# Altium schematic symbol library kmilo17pet-NSC_Interface.SchLib: 1433 symbols (part 26 of 51)
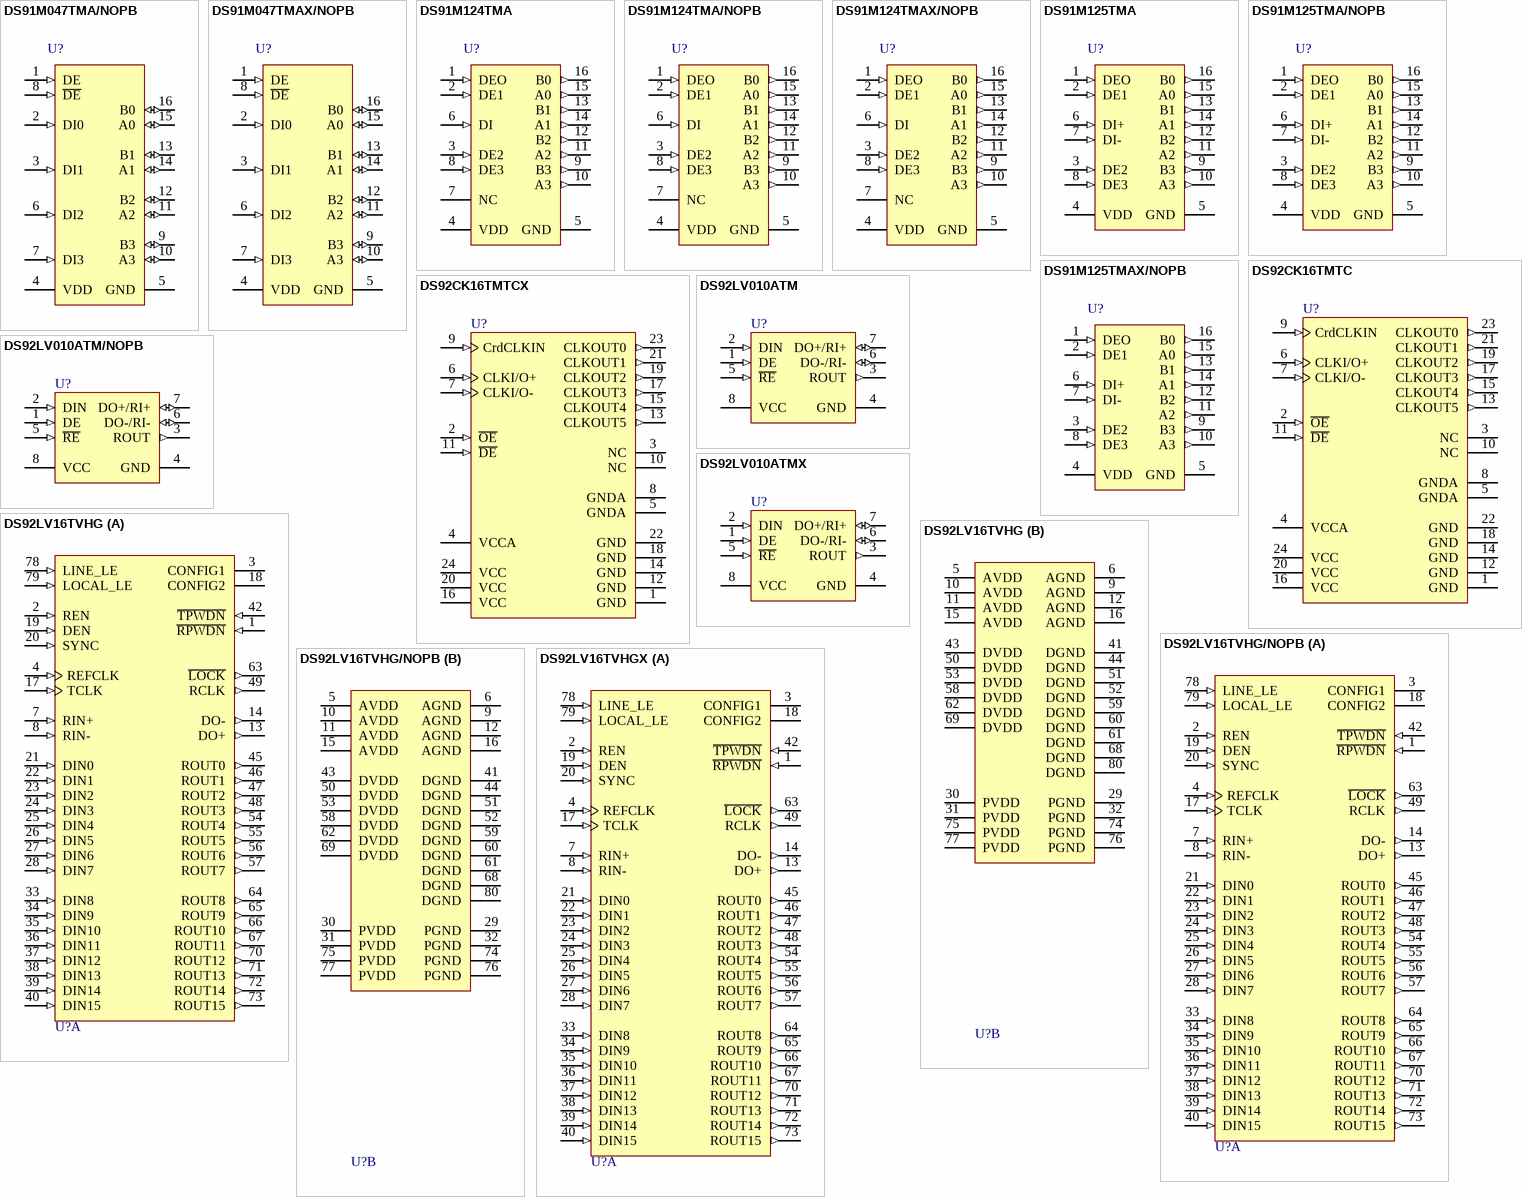
[diagram p149: symbols DS91M047TMA/NOPB to DS92LV16TVHGX]

## DS92LV16TVHG
designator U?
16-Bit Bus LVDS Serializer/Deserializer - 25 - 80 MHz, 80-pin LQFP; PartNumber: DS92LV16TVHG; Manufacturer: National Semiconductor; PackageTopMarking: NSUZXYTTE#*DS92LV16TVHG*BBBBB; PowerWise: N; CompType: Interface IC; High-Reliability: Y; DatasheetVersion: Feb-2002; PackageVersion: revE, Feb-2005; PackageReference: VHG80A; PackageDescription: LQFP, Jedec, Metric, 12 x 12 x 1.4mm, 80 Lead, 0.5mm Pitch; RoHS: N; PinCount: 80; Code_JEDEC: MS-026-BDD; ComponentLink1Description: Manufacturer URL; ComponentLink1URL: http://www.national.com/; ComponentLink2Description: DS92LV16 Datasheet; ComponentLink2URL: http://www.national.com/ds/DS/DS92LV16.pdf; ComponentLink3Description: DS92LV16 Web Page; ComponentLink3URL: http://www.national.com/pf/DS/DS92LV16.html; ComponentLink4Description: VHG80A Package Page; ComponentLink4URL: http://www.national.com/packaging/folders/vhg80a.html
footprint VHG80A_N (Thin QFP, 80-Leads, Body 12x12mm, Pitch 0.5mm, IPC Medium Density)
footprint VHG80A_L (Thin QFP, 80-Leads, Body 12x12mm, Pitch 0.5mm, IPC High Density)
footprint VHG80A_M (Thin QFP, 80-Leads, Body 12x12mm, Pitch 0.5mm, IPC Low Density)
part A pins: 1 ~{RPWDN} (in), 2 REN (in), 3 CONFIG1, 4 REFCLK (in), 7 RIN+ (in), 8 RIN- (in), 13 DO+ (out), 14 DO- (out), 17 TCLK (in), 18 CONFIG2, 19 DEN (in), 20 SYNC (in), 21 DIN0 (in), 22 DIN1 (in), 23 DIN2 (in), 24 DIN3 (in), 25 DIN4 (in), 26 DIN5 (in), 27 DIN6 (in), 28 DIN7 (in), 33 DIN8 (in), 34 DIN9 (in), 35 DIN10 (in), 36 DIN11 (in), 37 DIN12 (in), 38 DIN13 (in), 39 DIN14 (in), 40 DIN15 (in), 42 ~{TPWDN} (in), 45 ROUT0 (out), 46 ROUT1 (out), 47 ROUT2 (out), 48 ROUT3 (out), 49 RCLK (out), 54 ROUT4 (out), 55 ROUT5 (out), 56 ROUT6 (out), 57 ROUT7 (out), 63 ~{LOCK} (out), 64 ROUT8 (out), 65 ROUT9 (out), 66 ROUT10 (out), 67 ROUT11 (out), 70 ROUT12 (out), 71 ROUT13 (out), 72 ROUT14 (out), 73 ROUT15 (out), 78 LINE_LE (in), 79 LOCAL_LE (in)
part B pins: 5 AVDD (power), 6 AGND (power), 9 AGND (power), 10 AVDD (power), 11 AVDD (power), 12 AGND (power), 15 AVDD (power), 16 AGND (power), 29 PGND (power), 30 PVDD (power), 31 PVDD (power), 32 PGND (power), 41 DGND (power), 43 DVDD (power), 44 DGND (power), 50 DVDD (power), 51 DGND (power), 52 DGND (power), 53 DVDD (power), 58 DVDD (power), 59 DGND (power), 60 DGND (power), 61 DGND (power), 62 DVDD (power), 68 DGND (power), 69 DVDD (power), 74 PGND (power), 75 PVDD (power), 76 PGND (power), 77 PVDD (power), 80 DGND (power)

## DS92LV16TVHG/NOPB
designator U?
16-Bit Bus LVDS Serializer/Deserializer - 25 - 80 MHz, 80-pin LQFP, Pb-Free; PartNumber: DS92LV16TVHG/NOPB; Manufacturer: National Semiconductor; PackageTopMarking: NSUZXYTTE#*DS92LV16TVHG*BBBBB; PowerWise: N; CompType: Interface IC; High-Reliability: Y; DatasheetVersion: Feb-2002; PackageVersion: revE, Feb-2005; PackageReference: VHG80A; PackageDescription: LQFP, Jedec, Metric, 12 x 12 x 1.4mm, 80 Lead, 0.5mm Pitch; RoHS: Y; PinCount: 80; Code_JEDEC: MS-026-BDD; ComponentLink1Description: Manufacturer URL; ComponentLink1URL: http://www.national.com/; ComponentLink2Description: DS92LV16 Datasheet; ComponentLink2URL: http://www.national.com/ds/DS/DS92LV16.pdf; ComponentLink3Description: DS92LV16 Web Page; ComponentLink3URL: http://www.national.com/pf/DS/DS92LV16.html; ComponentLink4Description: VHG80A Package Page; ComponentLink4URL: http://www.national.com/packaging/folders/vhg80a.html
footprint VHG80A_N (Thin QFP, 80-Leads, Body 12x12mm, Pitch 0.5mm, IPC Medium Density)
footprint VHG80A_L (Thin QFP, 80-Leads, Body 12x12mm, Pitch 0.5mm, IPC High Density)
footprint VHG80A_M (Thin QFP, 80-Leads, Body 12x12mm, Pitch 0.5mm, IPC Low Density)
part A pins: 1 ~{RPWDN} (in), 2 REN (in), 3 CONFIG1, 4 REFCLK (in), 7 RIN+ (in), 8 RIN- (in), 13 DO+ (out), 14 DO- (out), 17 TCLK (in), 18 CONFIG2, 19 DEN (in), 20 SYNC (in), 21 DIN0 (in), 22 DIN1 (in), 23 DIN2 (in), 24 DIN3 (in), 25 DIN4 (in), 26 DIN5 (in), 27 DIN6 (in), 28 DIN7 (in), 33 DIN8 (in), 34 DIN9 (in), 35 DIN10 (in), 36 DIN11 (in), 37 DIN12 (in), 38 DIN13 (in), 39 DIN14 (in), 40 DIN15 (in), 42 ~{TPWDN} (in), 45 ROUT0 (out), 46 ROUT1 (out), 47 ROUT2 (out), 48 ROUT3 (out), 49 RCLK (out), 54 ROUT4 (out), 55 ROUT5 (out), 56 ROUT6 (out), 57 ROUT7 (out), 63 ~{LOCK} (out), 64 ROUT8 (out), 65 ROUT9 (out), 66 ROUT10 (out), 67 ROUT11 (out), 70 ROUT12 (out), 71 ROUT13 (out), 72 ROUT14 (out), 73 ROUT15 (out), 78 LINE_LE (in), 79 LOCAL_LE (in)
part B pins: 5 AVDD (power), 6 AGND (power), 9 AGND (power), 10 AVDD (power), 11 AVDD (power), 12 AGND (power), 15 AVDD (power), 16 AGND (power), 29 PGND (power), 30 PVDD (power), 31 PVDD (power), 32 PGND (power), 41 DGND (power), 43 DVDD (power), 44 DGND (power), 50 DVDD (power), 51 DGND (power), 52 DGND (power), 53 DVDD (power), 58 DVDD (power), 59 DGND (power), 60 DGND (power), 61 DGND (power), 62 DVDD (power), 68 DGND (power), 69 DVDD (power), 74 PGND (power), 75 PVDD (power), 76 PGND (power), 77 PVDD (power), 80 DGND (power)

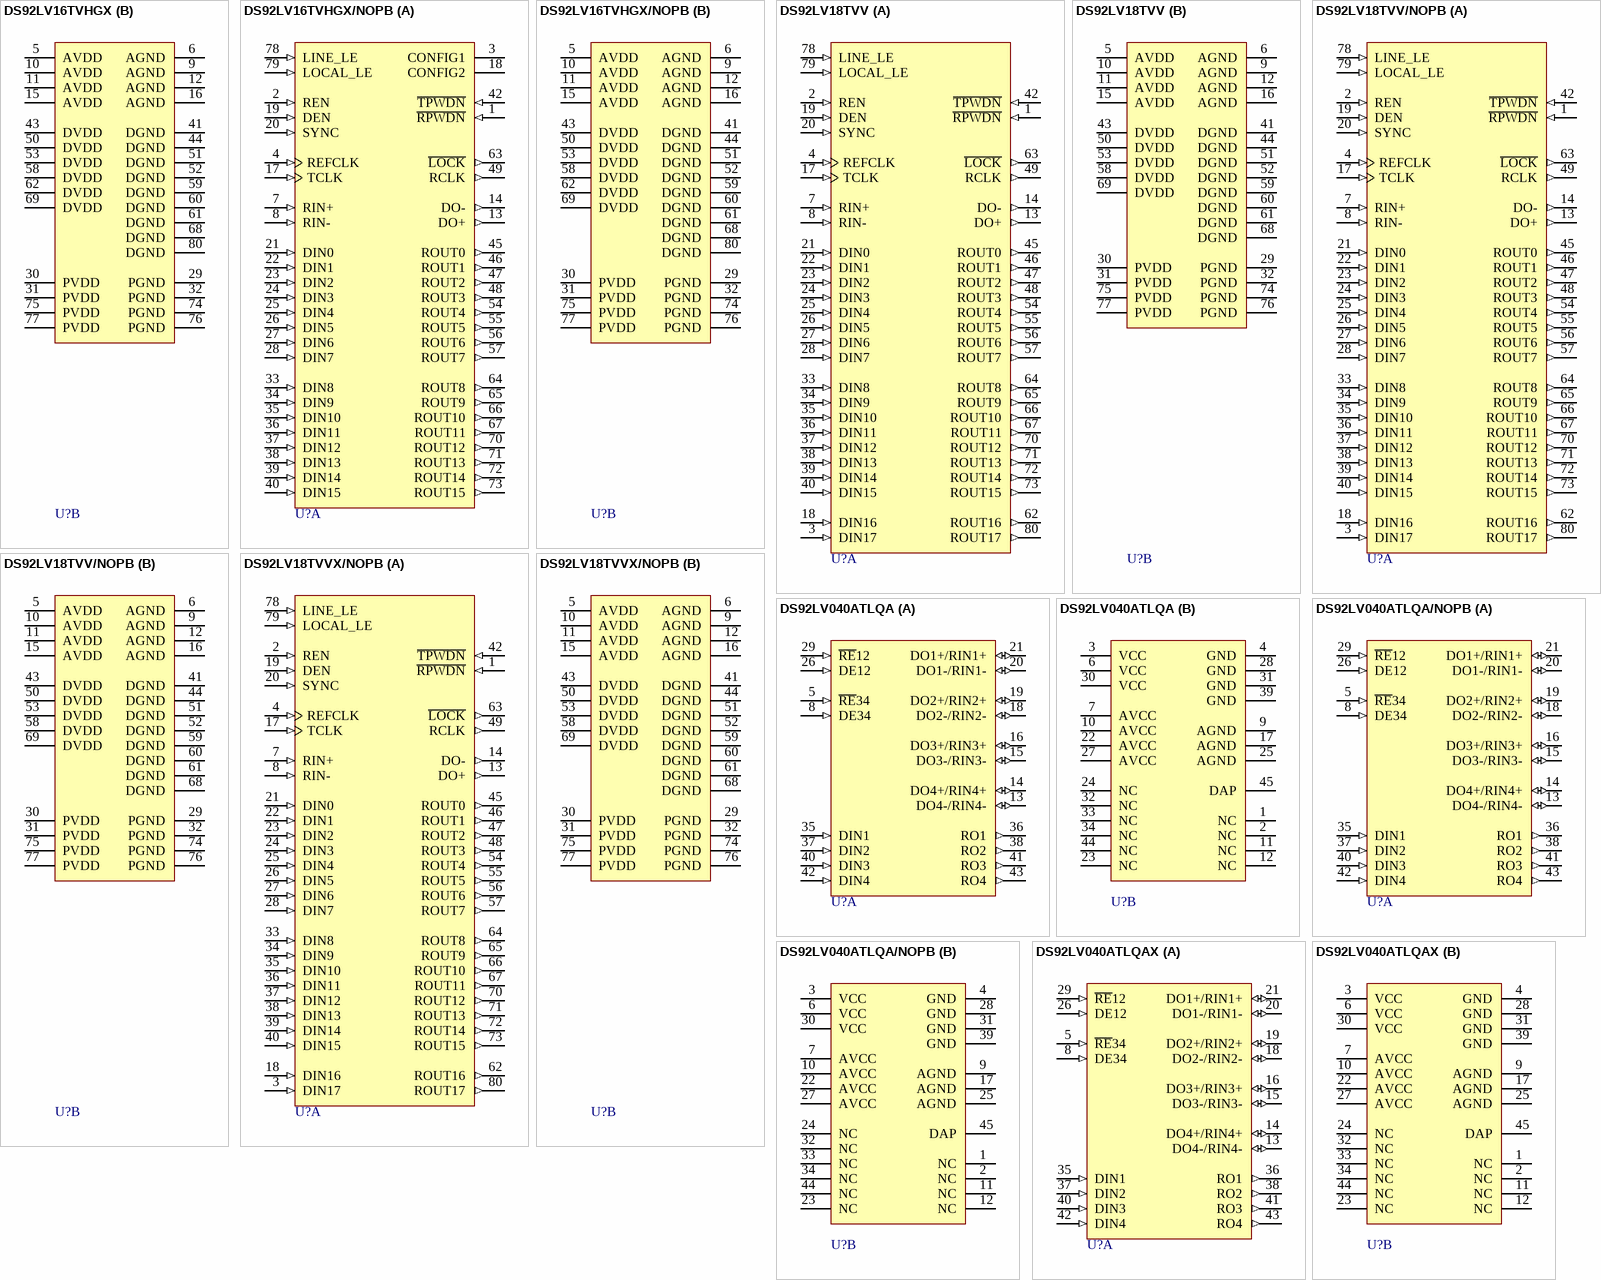
[diagram p68: symbols DS92LV16TVHGX to DS92LV040ATLQAX]

## DS92LV16TVHGX
designator U?
16-Bit Bus LVDS Serializer/Deserializer - 25 - 80 MHz, 80-pin LQFP; PartNumber: DS92LV16TVHGX; Manufacturer: National Semiconductor; PackageTopMarking: NSUZXYTTE#*DS92LV16TVHG*BBBBB; PowerWise: N; CompType: Interface IC; High-Reliability: Y; DatasheetVersion: Feb-2002; PackageVersion: revE, Feb-2005; PackageReference: VHG80A; PackageDescription: LQFP, Jedec, Metric, 12 x 12 x 1.4mm, 80 Lead, 0.5mm Pitch; RoHS: N; PinCount: 80; Code_JEDEC: MS-026-BDD; ComponentLink1Description: Manufacturer URL; ComponentLink1URL: http://www.national.com/; ComponentLink2Description: DS92LV16 Datasheet; ComponentLink2URL: http://www.national.com/ds/DS/DS92LV16.pdf; ComponentLink3Description: DS92LV16 Web Page; ComponentLink3URL: http://www.national.com/pf/DS/DS92LV16.html; ComponentLink4Description: VHG80A Package Page; ComponentLink4URL: http://www.national.com/packaging/folders/vhg80a.html
footprint VHG80A_N (Thin QFP, 80-Leads, Body 12x12mm, Pitch 0.5mm, IPC Medium Density)
footprint VHG80A_L (Thin QFP, 80-Leads, Body 12x12mm, Pitch 0.5mm, IPC High Density)
footprint VHG80A_M (Thin QFP, 80-Leads, Body 12x12mm, Pitch 0.5mm, IPC Low Density)
part A pins: 1 ~{RPWDN} (in), 2 REN (in), 3 CONFIG1, 4 REFCLK (in), 7 RIN+ (in), 8 RIN- (in), 13 DO+ (out), 14 DO- (out), 17 TCLK (in), 18 CONFIG2, 19 DEN (in), 20 SYNC (in), 21 DIN0 (in), 22 DIN1 (in), 23 DIN2 (in), 24 DIN3 (in), 25 DIN4 (in), 26 DIN5 (in), 27 DIN6 (in), 28 DIN7 (in), 33 DIN8 (in), 34 DIN9 (in), 35 DIN10 (in), 36 DIN11 (in), 37 DIN12 (in), 38 DIN13 (in), 39 DIN14 (in), 40 DIN15 (in), 42 ~{TPWDN} (in), 45 ROUT0 (out), 46 ROUT1 (out), 47 ROUT2 (out), 48 ROUT3 (out), 49 RCLK (out), 54 ROUT4 (out), 55 ROUT5 (out), 56 ROUT6 (out), 57 ROUT7 (out), 63 ~{LOCK} (out), 64 ROUT8 (out), 65 ROUT9 (out), 66 ROUT10 (out), 67 ROUT11 (out), 70 ROUT12 (out), 71 ROUT13 (out), 72 ROUT14 (out), 73 ROUT15 (out), 78 LINE_LE (in), 79 LOCAL_LE (in)
part B pins: 5 AVDD (power), 6 AGND (power), 9 AGND (power), 10 AVDD (power), 11 AVDD (power), 12 AGND (power), 15 AVDD (power), 16 AGND (power), 29 PGND (power), 30 PVDD (power), 31 PVDD (power), 32 PGND (power), 41 DGND (power), 43 DVDD (power), 44 DGND (power), 50 DVDD (power), 51 DGND (power), 52 DGND (power), 53 DVDD (power), 58 DVDD (power), 59 DGND (power), 60 DGND (power), 61 DGND (power), 62 DVDD (power), 68 DGND (power), 69 DVDD (power), 74 PGND (power), 75 PVDD (power), 76 PGND (power), 77 PVDD (power), 80 DGND (power)

## DS92LV16TVHGX/NOPB
designator U?
16-Bit Bus LVDS Serializer/Deserializer - 25 - 80 MHz, 80-pin LQFP, Pb-Free; PartNumber: DS92LV16TVHGX/NOPB; Manufacturer: National Semiconductor; PackageTopMarking: NSUZXYTTE#*DS92LV16TVHG*BBBBB; PowerWise: N; CompType: Interface IC; High-Reliability: Y; DatasheetVersion: Feb-2002; PackageVersion: revE, Feb-2005; PackageReference: VHG80A; PackageDescription: LQFP, Jedec, Metric, 12 x 12 x 1.4mm, 80 Lead, 0.5mm Pitch; RoHS: Y; PinCount: 80; Code_JEDEC: MS-026-BDD; ComponentLink1Description: Manufacturer URL; ComponentLink1URL: http://www.national.com/; ComponentLink2Description: DS92LV16 Datasheet; ComponentLink2URL: http://www.national.com/ds/DS/DS92LV16.pdf; ComponentLink3Description: DS92LV16 Web Page; ComponentLink3URL: http://www.national.com/pf/DS/DS92LV16.html; ComponentLink4Description: VHG80A Package Page; ComponentLink4URL: http://www.national.com/packaging/folders/vhg80a.html
footprint VHG80A_N (Thin QFP, 80-Leads, Body 12x12mm, Pitch 0.5mm, IPC Medium Density)
footprint VHG80A_L (Thin QFP, 80-Leads, Body 12x12mm, Pitch 0.5mm, IPC High Density)
footprint VHG80A_M (Thin QFP, 80-Leads, Body 12x12mm, Pitch 0.5mm, IPC Low Density)
part A pins: 1 ~{RPWDN} (in), 2 REN (in), 3 CONFIG1, 4 REFCLK (in), 7 RIN+ (in), 8 RIN- (in), 13 DO+ (out), 14 DO- (out), 17 TCLK (in), 18 CONFIG2, 19 DEN (in), 20 SYNC (in), 21 DIN0 (in), 22 DIN1 (in), 23 DIN2 (in), 24 DIN3 (in), 25 DIN4 (in), 26 DIN5 (in), 27 DIN6 (in), 28 DIN7 (in), 33 DIN8 (in), 34 DIN9 (in), 35 DIN10 (in), 36 DIN11 (in), 37 DIN12 (in), 38 DIN13 (in), 39 DIN14 (in), 40 DIN15 (in), 42 ~{TPWDN} (in), 45 ROUT0 (out), 46 ROUT1 (out), 47 ROUT2 (out), 48 ROUT3 (out), 49 RCLK (out), 54 ROUT4 (out), 55 ROUT5 (out), 56 ROUT6 (out), 57 ROUT7 (out), 63 ~{LOCK} (out), 64 ROUT8 (out), 65 ROUT9 (out), 66 ROUT10 (out), 67 ROUT11 (out), 70 ROUT12 (out), 71 ROUT13 (out), 72 ROUT14 (out), 73 ROUT15 (out), 78 LINE_LE (in), 79 LOCAL_LE (in)
part B pins: 5 AVDD (power), 6 AGND (power), 9 AGND (power), 10 AVDD (power), 11 AVDD (power), 12 AGND (power), 15 AVDD (power), 16 AGND (power), 29 PGND (power), 30 PVDD (power), 31 PVDD (power), 32 PGND (power), 41 DGND (power), 43 DVDD (power), 44 DGND (power), 50 DVDD (power), 51 DGND (power), 52 DGND (power), 53 DVDD (power), 58 DVDD (power), 59 DGND (power), 60 DGND (power), 61 DGND (power), 62 DVDD (power), 68 DGND (power), 69 DVDD (power), 74 PGND (power), 75 PVDD (power), 76 PGND (power), 77 PVDD (power), 80 DGND (power)

## DS92LV18TVV
designator U?
18-Bit Bus LVDS Serializer/Deserializer - 15 - 66 MHz, 80-pin LQFP; PartNumber: DS92LV18TVV; Manufacturer: National Semiconductor; PackageTopMarking: NSUZXYTTE#*DS92LV18TVV*BBBBB; PowerWise: N; CompType: Interface IC; High-Reliability: Y; DatasheetVersion: Jun-2006; PackageVersion: revE, Feb-2005; PackageReference: VHG80A; PackageDescription: LQFP, Jedec, Metric, 12 x 12 x 1.4mm, 80 Lead, 0.5mm Pitch; RoHS: N; PinCount: 80; Code_JEDEC: MS-026-BDD; ComponentLink1Description: Manufacturer URL; ComponentLink1URL: http://www.national.com/; ComponentLink2Description: DS92LV18 Datasheet; ComponentLink2URL: http://www.national.com/ds/DS/DS92LV18.pdf; ComponentLink3Description: DS92LV18 Web Page; ComponentLink3URL: http://www.national.com/pf/DS/DS92LV18.html; ComponentLink4Description: VHG80A Package Page; ComponentLink4URL: http://www.national.com/packaging/folders/vhg80a.html
footprint VHG80A_N (Thin QFP, 80-Leads, Body 12x12mm, Pitch 0.5mm, IPC Medium Density)
footprint VHG80A_L (Thin QFP, 80-Leads, Body 12x12mm, Pitch 0.5mm, IPC High Density)
footprint VHG80A_M (Thin QFP, 80-Leads, Body 12x12mm, Pitch 0.5mm, IPC Low Density)
part A pins: 1 ~{RPWDN} (in), 2 REN (in), 3 DIN17 (in), 4 REFCLK (in), 7 RIN+ (in), 8 RIN- (in), 13 DO+ (out), 14 DO- (out), 17 TCLK (in), 18 DIN16 (in), 19 DEN (in), 20 SYNC (in), 21 DIN0 (in), 22 DIN1 (in), 23 DIN2 (in), 24 DIN3 (in), 25 DIN4 (in), 26 DIN5 (in), 27 DIN6 (in), 28 DIN7 (in), 33 DIN8 (in), 34 DIN9 (in), 35 DIN10 (in), 36 DIN11 (in), 37 DIN12 (in), 38 DIN13 (in), 39 DIN14 (in), 40 DIN15 (in), 42 ~{TPWDN} (in), 45 ROUT0 (out), 46 ROUT1 (out), 47 ROUT2 (out), 48 ROUT3 (out), 49 RCLK (out), 54 ROUT4 (out), 55 ROUT5 (out), 56 ROUT6 (out), 57 ROUT7 (out), 62 ROUT16 (out), 63 ~{LOCK} (out), 64 ROUT8 (out), 65 ROUT9 (out), 66 ROUT10 (out), 67 ROUT11 (out), 70 ROUT12 (out), 71 ROUT13 (out), 72 ROUT14 (out), 73 ROUT15 (out), 78 LINE_LE (in), 79 LOCAL_LE (in), 80 ROUT17 (out)
part B pins: 5 AVDD (power), 6 AGND (power), 9 AGND (power), 10 AVDD (power), 11 AVDD (power), 12 AGND (power), 15 AVDD (power), 16 AGND (power), 29 PGND (power), 30 PVDD (power), 31 PVDD (power), 32 PGND (power), 41 DGND (power), 43 DVDD (power), 44 DGND (power), 50 DVDD (power), 51 DGND (power), 52 DGND (power), 53 DVDD (power), 58 DVDD (power), 59 DGND (power), 60 DGND (power), 61 DGND (power), 68 DGND (power), 69 DVDD (power), 74 PGND (power), 75 PVDD (power), 76 PGND (power), 77 PVDD (power)

## DS92LV18TVV/NOPB
designator U?
18-Bit Bus LVDS Serializer/Deserializer - 15-66 MHz, 80-pin LQFP, Pb-Free; PartNumber: DS92LV18TVV/NOPB; Manufacturer: National Semiconductor; PackageTopMarking: NSUZXYTTE#*DS92LV18TVV*BBBBB; PowerWise: N; CompType: Interface IC; High-Reliability: Y; DatasheetVersion: Jun-2006; PackageVersion: revE, Feb-2005; PackageReference: VHG80A; PackageDescription: LQFP, Jedec, Metric, 12 x 12 x 1.4mm, 80 Lead, 0.5mm Pitch; RoHS: Y; PinCount: 80; Code_JEDEC: MS-026-BDD; ComponentLink1Description: Manufacturer URL; ComponentLink1URL: http://www.national.com/; ComponentLink2Description: DS92LV18 Datasheet; ComponentLink2URL: http://www.national.com/ds/DS/DS92LV18.pdf; ComponentLink3Description: DS92LV18 Web Page; ComponentLink3URL: http://www.national.com/pf/DS/DS92LV18.html; ComponentLink4Description: VHG80A Package Page; ComponentLink4URL: http://www.national.com/packaging/folders/vhg80a.html
footprint VHG80A_N (Thin QFP, 80-Leads, Body 12x12mm, Pitch 0.5mm, IPC Medium Density)
footprint VHG80A_L (Thin QFP, 80-Leads, Body 12x12mm, Pitch 0.5mm, IPC High Density)
footprint VHG80A_M (Thin QFP, 80-Leads, Body 12x12mm, Pitch 0.5mm, IPC Low Density)
part A pins: 1 ~{RPWDN} (in), 2 REN (in), 3 DIN17 (in), 4 REFCLK (in), 7 RIN+ (in), 8 RIN- (in), 13 DO+ (out), 14 DO- (out), 17 TCLK (in), 18 DIN16 (in), 19 DEN (in), 20 SYNC (in), 21 DIN0 (in), 22 DIN1 (in), 23 DIN2 (in), 24 DIN3 (in), 25 DIN4 (in), 26 DIN5 (in), 27 DIN6 (in), 28 DIN7 (in), 33 DIN8 (in), 34 DIN9 (in), 35 DIN10 (in), 36 DIN11 (in), 37 DIN12 (in), 38 DIN13 (in), 39 DIN14 (in), 40 DIN15 (in), 42 ~{TPWDN} (in), 45 ROUT0 (out), 46 ROUT1 (out), 47 ROUT2 (out), 48 ROUT3 (out), 49 RCLK (out), 54 ROUT4 (out), 55 ROUT5 (out), 56 ROUT6 (out), 57 ROUT7 (out), 62 ROUT16 (out), 63 ~{LOCK} (out), 64 ROUT8 (out), 65 ROUT9 (out), 66 ROUT10 (out), 67 ROUT11 (out), 70 ROUT12 (out), 71 ROUT13 (out), 72 ROUT14 (out), 73 ROUT15 (out), 78 LINE_LE (in), 79 LOCAL_LE (in), 80 ROUT17 (out)
part B pins: 5 AVDD (power), 6 AGND (power), 9 AGND (power), 10 AVDD (power), 11 AVDD (power), 12 AGND (power), 15 AVDD (power), 16 AGND (power), 29 PGND (power), 30 PVDD (power), 31 PVDD (power), 32 PGND (power), 41 DGND (power), 43 DVDD (power), 44 DGND (power), 50 DVDD (power), 51 DGND (power), 52 DGND (power), 53 DVDD (power), 58 DVDD (power), 59 DGND (power), 60 DGND (power), 61 DGND (power), 68 DGND (power), 69 DVDD (power), 74 PGND (power), 75 PVDD (power), 76 PGND (power), 77 PVDD (power)

## DS92LV18TVVX/NOPB
designator U?
18-Bit Bus LVDS Serializer/Deserializer - 15-66 MHz, 80-pin LQFP, Pb-Free; PartNumber: DS92LV18TVVX/NOPB; Manufacturer: National Semiconductor; PackageTopMarking: NSUZXYTTE#*DS92LV18TVV*BBBBB; PowerWise: N; CompType: Interface IC; High-Reliability: Y; DatasheetVersion: Jun-2006; PackageVersion: revE, Feb-2005; PackageReference: VHG80A; PackageDescription: LQFP, Jedec, Metric, 12 x 12 x 1.4mm, 80 Lead, 0.5mm Pitch; RoHS: Y; PinCount: 80; Code_JEDEC: MS-026-BDD; ComponentLink1Description: Manufacturer URL; ComponentLink1URL: http://www.national.com/; ComponentLink2Description: DS92LV18 Datasheet; ComponentLink2URL: http://www.national.com/ds/DS/DS92LV18.pdf; ComponentLink3Description: DS92LV18 Web Page; ComponentLink3URL: http://www.national.com/pf/DS/DS92LV18.html; ComponentLink4Description: VHG80A Package Page; ComponentLink4URL: http://www.national.com/packaging/folders/vhg80a.html
footprint VHG80A_N (Thin QFP, 80-Leads, Body 12x12mm, Pitch 0.5mm, IPC Medium Density)
footprint VHG80A_L (Thin QFP, 80-Leads, Body 12x12mm, Pitch 0.5mm, IPC High Density)
footprint VHG80A_M (Thin QFP, 80-Leads, Body 12x12mm, Pitch 0.5mm, IPC Low Density)
part A pins: 1 ~{RPWDN} (in), 2 REN (in), 3 DIN17 (in), 4 REFCLK (in), 7 RIN+ (in), 8 RIN- (in), 13 DO+ (out), 14 DO- (out), 17 TCLK (in), 18 DIN16 (in), 19 DEN (in), 20 SYNC (in), 21 DIN0 (in), 22 DIN1 (in), 23 DIN2 (in), 24 DIN3 (in), 25 DIN4 (in), 26 DIN5 (in), 27 DIN6 (in), 28 DIN7 (in), 33 DIN8 (in), 34 DIN9 (in), 35 DIN10 (in), 36 DIN11 (in), 37 DIN12 (in), 38 DIN13 (in), 39 DIN14 (in), 40 DIN15 (in), 42 ~{TPWDN} (in), 45 ROUT0 (out), 46 ROUT1 (out), 47 ROUT2 (out), 48 ROUT3 (out), 49 RCLK (out), 54 ROUT4 (out), 55 ROUT5 (out), 56 ROUT6 (out), 57 ROUT7 (out), 62 ROUT16 (out), 63 ~{LOCK} (out), 64 ROUT8 (out), 65 ROUT9 (out), 66 ROUT10 (out), 67 ROUT11 (out), 70 ROUT12 (out), 71 ROUT13 (out), 72 ROUT14 (out), 73 ROUT15 (out), 78 LINE_LE (in), 79 LOCAL_LE (in), 80 ROUT17 (out)
part B pins: 5 AVDD (power), 6 AGND (power), 9 AGND (power), 10 AVDD (power), 11 AVDD (power), 12 AGND (power), 15 AVDD (power), 16 AGND (power), 29 PGND (power), 30 PVDD (power), 31 PVDD (power), 32 PGND (power), 41 DGND (power), 43 DVDD (power), 44 DGND (power), 50 DVDD (power), 51 DGND (power), 52 DGND (power), 53 DVDD (power), 58 DVDD (power), 59 DGND (power), 60 DGND (power), 61 DGND (power), 68 DGND (power), 69 DVDD (power), 74 PGND (power), 75 PVDD (power), 76 PGND (power), 77 PVDD (power)

## DS92LV040ATLQA
designator U?
4 Channel Bus LVDS Transceiver, 44-pin LLP; PartNumber: DS92LV040ATLQA; Manufacturer: National Semiconductor; PackageTopMarking: NS*UZXYTTE#*LV040A; PowerWise: N; CompType: Interface IC; High-Reliability: Y; DatasheetVersion: Aug-2002; PackageVersion: revB, Oct-2001; PackageReference: LQA44A; PackageDescription: LLP, Plastic, Quad, 7 x 7 x 0.75mm Body, 44 Lead, 0.5mm Pitch; RoHS: N; PinCount: 44; ComponentLink1Description: Manufacturer URL; ComponentLink1URL: http://www.national.com/; ComponentLink2Description: DS92LV040A Datasheet; ComponentLink2URL: http://www.national.com/ds/DS/DS92LV040A.pdf; ComponentLink3Description: DS92LV040A Web Page; ComponentLink3URL: http://www.national.com/pf/DS/DS92LV040A.html; ComponentLink4Description: LQA44A Package Page; ComponentLink4URL: http://www.national.com/packaging/folders/lqa44a.html
footprint LQA44A (PQFN, 44-Leads, Body 7x7mm, Pitch 0.5mm, Thermal Pad 4.4x4.4mm, NSC Recommended)
part A pins: 5 ~{RE}34 (in), 8 DE34 (in), 13 DO4-/RIN4- (io), 14 DO4+/RIN4+ (io), 15 DO3-/RIN3- (io), 16 DO3+/RIN3+ (io), 18 DO2-/RIN2- (io), 19 DO2+/RIN2+ (io), 20 DO1-/RIN1- (io), 21 DO1+/RIN1+ (io), 26 DE12 (in), 29 ~{RE}12 (in), 35 DIN1 (in), 36 RO1 (out), 37 DIN2 (in), 38 RO2 (out), 40 DIN3 (in), 41 RO3 (out), 42 DIN4 (in), 43 RO4 (out)
part B pins: 1 NC, 2 NC, 3 VCC (power), 4 GND (power), 6 VCC (power), 7 AVCC (power), 9 AGND (power), 10 AVCC (power), 11 NC, 12 NC, 17 AGND (power), 22 AVCC (power), 23 NC, 24 NC, 25 AGND (power), 27 AVCC (power), 28 GND (power), 30 VCC (power), 31 GND (power), 32 NC, 33 NC, 34 NC, 39 GND (power), 44 NC, 45 DAP (power)

## DS92LV040ATLQA/NOPB
designator U?
4 Channel Bus LVDS Transceiver, 44-pin LLP, Pb-Free; PartNumber: DS92LV040ATLQA/NOPB; Manufacturer: National Semiconductor; PackageTopMarking: NS*UZXYTTE#*LV040A; PowerWise: N; CompType: Interface IC; High-Reliability: Y; DatasheetVersion: Aug-2002; PackageVersion: revB, Oct-2001; PackageReference: LQA44A; PackageDescription: LLP, Plastic, Quad, 7 x 7 x 0.75mm Body, 44 Lead, 0.5mm Pitch; RoHS: Y; PinCount: 44; ComponentLink1Description: Manufacturer URL; ComponentLink1URL: http://www.national.com/; ComponentLink2Description: DS92LV040A Datasheet; ComponentLink2URL: http://www.national.com/ds/DS/DS92LV040A.pdf; ComponentLink3Description: DS92LV040A Web Page; ComponentLink3URL: http://www.national.com/pf/DS/DS92LV040A.html; ComponentLink4Description: LQA44A Package Page; ComponentLink4URL: http://www.national.com/packaging/folders/lqa44a.html
footprint LQA44A (PQFN, 44-Leads, Body 7x7mm, Pitch 0.5mm, Thermal Pad 4.4x4.4mm, NSC Recommended)
part A pins: 5 ~{RE}34 (in), 8 DE34 (in), 13 DO4-/RIN4- (io), 14 DO4+/RIN4+ (io), 15 DO3-/RIN3- (io), 16 DO3+/RIN3+ (io), 18 DO2-/RIN2- (io), 19 DO2+/RIN2+ (io), 20 DO1-/RIN1- (io), 21 DO1+/RIN1+ (io), 26 DE12 (in), 29 ~{RE}12 (in), 35 DIN1 (in), 36 RO1 (out), 37 DIN2 (in), 38 RO2 (out), 40 DIN3 (in), 41 RO3 (out), 42 DIN4 (in), 43 RO4 (out)
part B pins: 1 NC, 2 NC, 3 VCC (power), 4 GND (power), 6 VCC (power), 7 AVCC (power), 9 AGND (power), 10 AVCC (power), 11 NC, 12 NC, 17 AGND (power), 22 AVCC (power), 23 NC, 24 NC, 25 AGND (power), 27 AVCC (power), 28 GND (power), 30 VCC (power), 31 GND (power), 32 NC, 33 NC, 34 NC, 39 GND (power), 44 NC, 45 DAP (power)

## DS92LV040ATLQAX
designator U?
4 Channel Bus LVDS Transceiver, 44-pin LLP; PartNumber: DS92LV040ATLQAX; Manufacturer: National Semiconductor; PackageTopMarking: NS*UZXYTTE#*LV040A; PowerWise: N; CompType: Interface IC; High-Reliability: Y; DatasheetVersion: Aug-2002; PackageVersion: revB, Oct-2001; PackageReference: LQA44A; PackageDescription: LLP, Plastic, Quad, 7 x 7 x 0.75mm Body, 44 Lead, 0.5mm Pitch; RoHS: N; PinCount: 44; ComponentLink1Description: Manufacturer URL; ComponentLink1URL: http://www.national.com/; ComponentLink2Description: DS92LV040A Datasheet; ComponentLink2URL: http://www.national.com/ds/DS/DS92LV040A.pdf; ComponentLink3Description: DS92LV040A Web Page; ComponentLink3URL: http://www.national.com/pf/DS/DS92LV040A.html; ComponentLink4Description: LQA44A Package Page; ComponentLink4URL: http://www.national.com/packaging/folders/lqa44a.html
footprint LQA44A (PQFN, 44-Leads, Body 7x7mm, Pitch 0.5mm, Thermal Pad 4.4x4.4mm, NSC Recommended)
part A pins: 5 ~{RE}34 (in), 8 DE34 (in), 13 DO4-/RIN4- (io), 14 DO4+/RIN4+ (io), 15 DO3-/RIN3- (io), 16 DO3+/RIN3+ (io), 18 DO2-/RIN2- (io), 19 DO2+/RIN2+ (io), 20 DO1-/RIN1- (io), 21 DO1+/RIN1+ (io), 26 DE12 (in), 29 ~{RE}12 (in), 35 DIN1 (in), 36 RO1 (out), 37 DIN2 (in), 38 RO2 (out), 40 DIN3 (in), 41 RO3 (out), 42 DIN4 (in), 43 RO4 (out)
part B pins: 1 NC, 2 NC, 3 VCC (power), 4 GND (power), 6 VCC (power), 7 AVCC (power), 9 AGND (power), 10 AVCC (power), 11 NC, 12 NC, 17 AGND (power), 22 AVCC (power), 23 NC, 24 NC, 25 AGND (power), 27 AVCC (power), 28 GND (power), 30 VCC (power), 31 GND (power), 32 NC, 33 NC, 34 NC, 39 GND (power), 44 NC, 45 DAP (power)

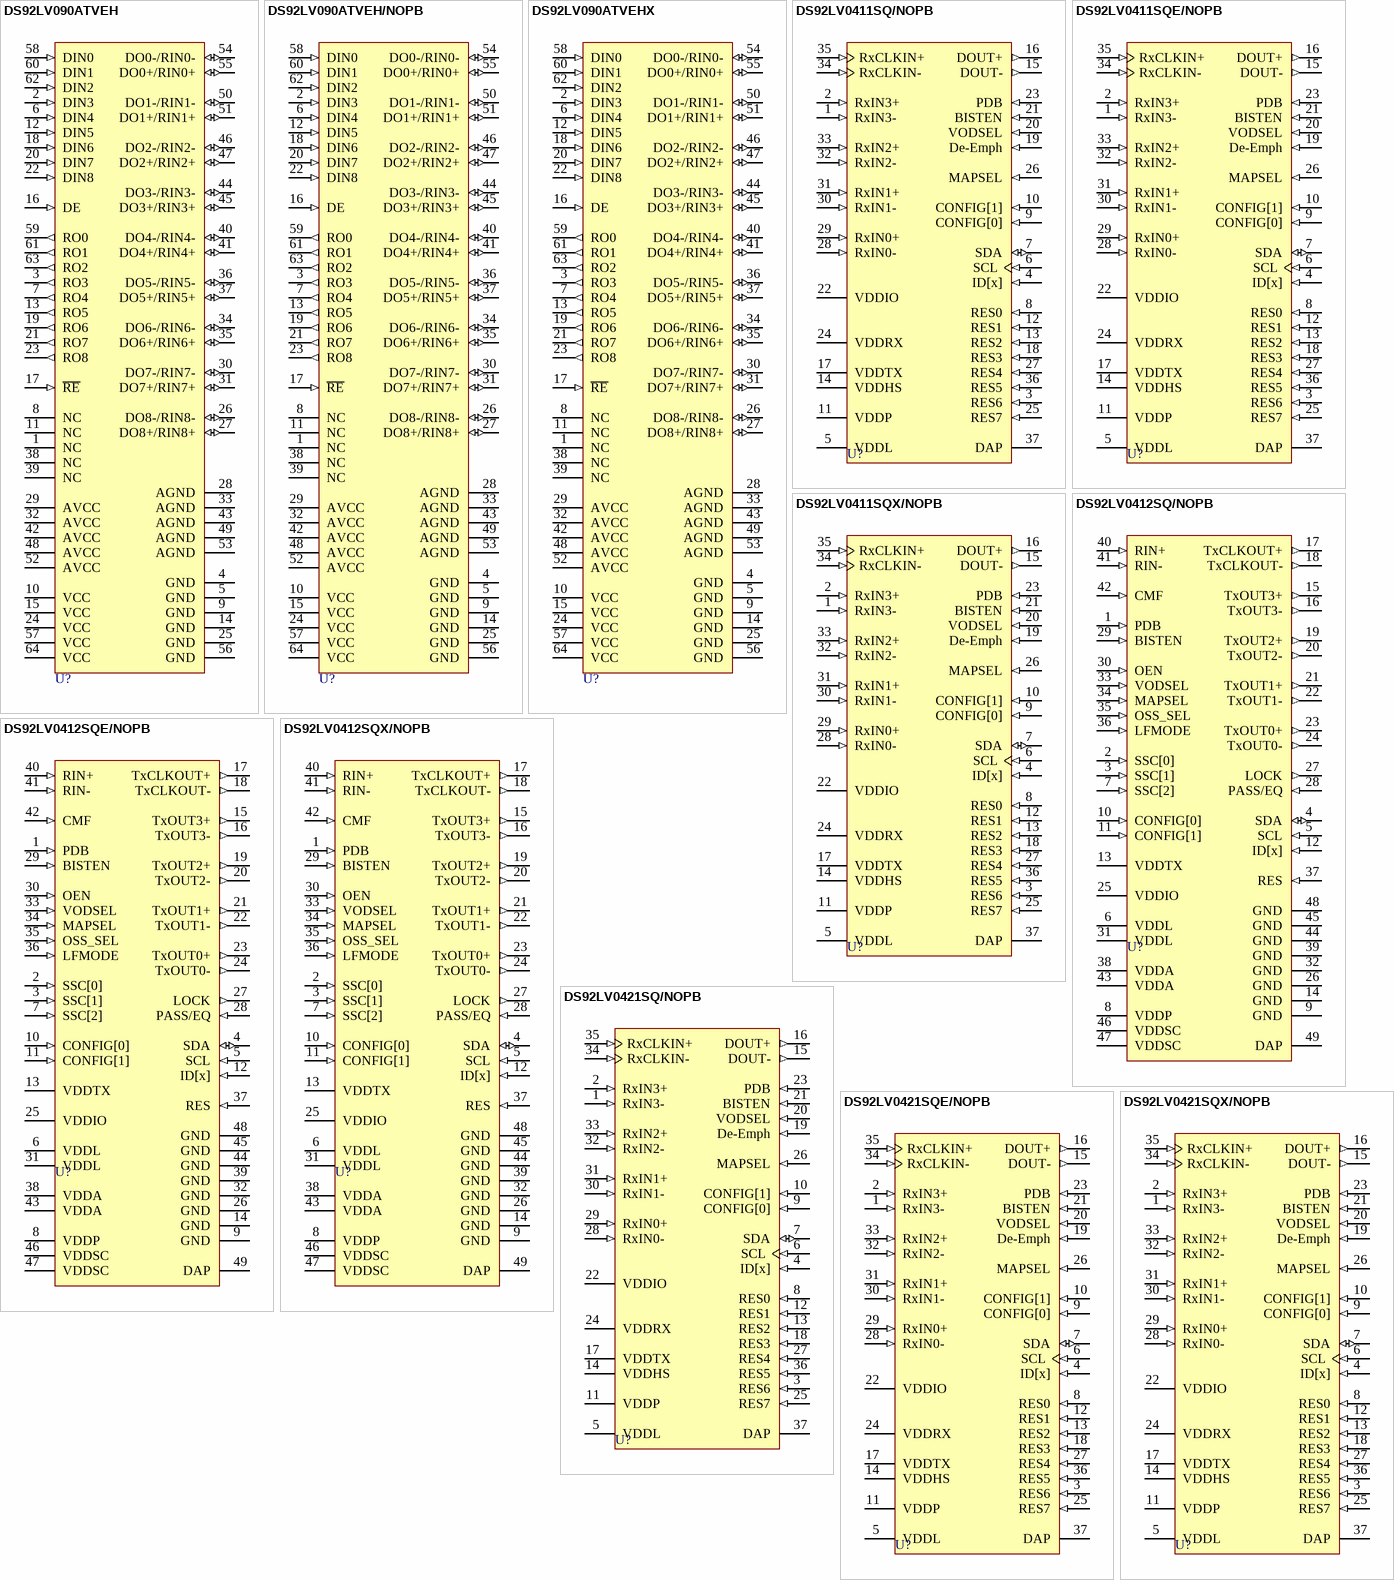
[diagram p69: symbols DS92LV090ATVEH to DS92LV0421SQX/NOPB]

## DS92LV090ATVEH
designator U?
9 Channel Bus LVDS Transceiver, 64-pin LQFP; PartNumber: DS92LV090ATVEH; Manufacturer: National Semiconductor; PackageTopMarking: NSUZXYYTTE#*DS92LV090A*TVEH; PowerWise: N; CompType: Interface IC; High-Reliability: Y; DatasheetVersion: Dec-2007; PackageVersion: revC, Dec-1999; PackageReference: VEH64A; PackageDescription: LQFP, Jedec, Metric, 10 x 10 x 1.4mm, 64 Lead; RoHS: N; PinCount: 64; Code_JEDEC: MS-026-BCD; ComponentLink1Description: Manufacturer URL; ComponentLink1URL: http://www.national.com/; ComponentLink2Description: DS92LV090A Datasheet; ComponentLink2URL: http://www.national.com/ds/DS/DS92LV090A.pdf; ComponentLink3Description: DS92LV090A Web Page; ComponentLink3URL: http://www.national.com/pf/DS/DS92LV090A.html; ComponentLink4Description: VEH64A Package Page; ComponentLink4URL: http://www.national.com/packaging/folders/veh64a.html
footprint VEH64A_N (Thin QFP, 64-Leads, Body 10x10mm, Pitch 0.5mm, IPC Medium Density)
footprint VEH64A_L (Thin QFP, 64-Leads, Body 10x10mm, Pitch 0.5mm, IPC High Density)
footprint VEH64A_M (Thin QFP, 64-Leads, Body 10x10mm, Pitch 0.5mm, IPC Low Density)
pins: 1 NC, 2 DIN3 (in), 3 RO3 (out), 4 GND (power), 5 GND (power), 6 DIN4 (in), 7 RO4 (out), 8 NC, 9 GND (power), 10 VCC (power), 11 NC, 12 DIN5 (in), 13 RO5 (out), 14 GND (power), 15 VCC (power), 16 DE (in), 17 ~{RE} (in), 18 DIN6 (in), 19 RO6 (out), 20 DIN7 (in), 21 RO7 (out), 22 DIN8 (in), 23 RO8 (out), 24 VCC (power), 25 GND (power), 26 DO8-/RIN8- (io), 27 DO8+/RIN8+ (io), 28 AGND (power), 29 AVCC (power), 30 DO7-/RIN7- (io), 31 DO7+/RIN7+ (io), 32 AVCC (power), 33 AGND (power), 34 DO6-/RIN6- (io), 35 DO6+/RIN6+ (io), 36 DO5-/RIN5- (io), 37 DO5+/RIN5+ (io), 38 NC, 39 NC, 40 DO4-/RIN4- (io), 41 DO4+/RIN4+ (io), 42 AVCC (power), 43 AGND (power), 44 DO3-/RIN3- (io), 45 DO3+/RIN3+ (io), 46 DO2-/RIN2- (io), 47 DO2+/RIN2+ (io), 48 AVCC (power), 49 AGND (power), 50 DO1-/RIN1- (io), 51 DO1+/RIN1+ (io), 52 AVCC (power), 53 AGND (power), 54 DO0-/RIN0- (io), 55 DO0+/RIN0+ (io), 56 GND (power), 57 VCC (power), 58 DIN0 (in), 59 RO0 (out), 60 DIN1 (in), 61 RO1 (out), 62 DIN2 (in), 63 RO2 (out), 64 VCC (power)

## DS92LV090ATVEH/NOPB
designator U?
9 Channel Bus LVDS Transceiver, 64-pin LQFP, Pb-Free; PartNumber: DS92LV090ATVEH/NOPB; Manufacturer: National Semiconductor; PackageTopMarking: NSUZXYYTTE#*DS92LV090A*TVEH; PowerWise: N; CompType: Interface IC; High-Reliability: Y; DatasheetVersion: Dec-2007; PackageVersion: revC, Dec-1999; PackageReference: VEH64A; PackageDescription: LQFP, Jedec, Metric, 10 x 10 x 1.4mm, 64 Lead; RoHS: Y; PinCount: 64; Code_JEDEC: MS-026-BCD; ComponentLink1Description: Manufacturer URL; ComponentLink1URL: http://www.national.com/; ComponentLink2Description: DS92LV090A Datasheet; ComponentLink2URL: http://www.national.com/ds/DS/DS92LV090A.pdf; ComponentLink3Description: DS92LV090A Web Page; ComponentLink3URL: http://www.national.com/pf/DS/DS92LV090A.html; ComponentLink4Description: VEH64A Package Page; ComponentLink4URL: http://www.national.com/packaging/folders/veh64a.html
footprint VEH64A_N (Thin QFP, 64-Leads, Body 10x10mm, Pitch 0.5mm, IPC Medium Density)
footprint VEH64A_L (Thin QFP, 64-Leads, Body 10x10mm, Pitch 0.5mm, IPC High Density)
footprint VEH64A_M (Thin QFP, 64-Leads, Body 10x10mm, Pitch 0.5mm, IPC Low Density)
pins: 1 NC, 2 DIN3 (in), 3 RO3 (out), 4 GND (power), 5 GND (power), 6 DIN4 (in), 7 RO4 (out), 8 NC, 9 GND (power), 10 VCC (power), 11 NC, 12 DIN5 (in), 13 RO5 (out), 14 GND (power), 15 VCC (power), 16 DE (in), 17 ~{RE} (in), 18 DIN6 (in), 19 RO6 (out), 20 DIN7 (in), 21 RO7 (out), 22 DIN8 (in), 23 RO8 (out), 24 VCC (power), 25 GND (power), 26 DO8-/RIN8- (io), 27 DO8+/RIN8+ (io), 28 AGND (power), 29 AVCC (power), 30 DO7-/RIN7- (io), 31 DO7+/RIN7+ (io), 32 AVCC (power), 33 AGND (power), 34 DO6-/RIN6- (io), 35 DO6+/RIN6+ (io), 36 DO5-/RIN5- (io), 37 DO5+/RIN5+ (io), 38 NC, 39 NC, 40 DO4-/RIN4- (io), 41 DO4+/RIN4+ (io), 42 AVCC (power), 43 AGND (power), 44 DO3-/RIN3- (io), 45 DO3+/RIN3+ (io), 46 DO2-/RIN2- (io), 47 DO2+/RIN2+ (io), 48 AVCC (power), 49 AGND (power), 50 DO1-/RIN1- (io), 51 DO1+/RIN1+ (io), 52 AVCC (power), 53 AGND (power), 54 DO0-/RIN0- (io), 55 DO0+/RIN0+ (io), 56 GND (power), 57 VCC (power), 58 DIN0 (in), 59 RO0 (out), 60 DIN1 (in), 61 RO1 (out), 62 DIN2 (in), 63 RO2 (out), 64 VCC (power)

## DS92LV090ATVEHX
designator U?
9 Channel Bus LVDS Transceiver, 64-pin LQFP; PartNumber: DS92LV090ATVEHX; Manufacturer: National Semiconductor; PackageTopMarking: NSUZXYYTTE#*DS92LV090A*TVEH; PowerWise: N; CompType: Interface IC; High-Reliability: Y; DatasheetVersion: Dec-2007; PackageVersion: revC, Dec-1999; PackageReference: VEH64A; PackageDescription: LQFP, Jedec, Metric, 10 x 10 x 1.4mm, 64 Lead; RoHS: N; PinCount: 64; Code_JEDEC: MS-026-BCD; ComponentLink1Description: Manufacturer URL; ComponentLink1URL: http://www.national.com/; ComponentLink2Description: DS92LV090A Datasheet; ComponentLink2URL: http://www.national.com/ds/DS/DS92LV090A.pdf; ComponentLink3Description: DS92LV090A Web Page; ComponentLink3URL: http://www.national.com/pf/DS/DS92LV090A.html; ComponentLink4Description: VEH64A Package Page; ComponentLink4URL: http://www.national.com/packaging/folders/veh64a.html
footprint VEH64A_N (Thin QFP, 64-Leads, Body 10x10mm, Pitch 0.5mm, IPC Medium Density)
footprint VEH64A_L (Thin QFP, 64-Leads, Body 10x10mm, Pitch 0.5mm, IPC High Density)
footprint VEH64A_M (Thin QFP, 64-Leads, Body 10x10mm, Pitch 0.5mm, IPC Low Density)
pins: 1 NC, 2 DIN3 (in), 3 RO3 (out), 4 GND (power), 5 GND (power), 6 DIN4 (in), 7 RO4 (out), 8 NC, 9 GND (power), 10 VCC (power), 11 NC, 12 DIN5 (in), 13 RO5 (out), 14 GND (power), 15 VCC (power), 16 DE (in), 17 ~{RE} (in), 18 DIN6 (in), 19 RO6 (out), 20 DIN7 (in), 21 RO7 (out), 22 DIN8 (in), 23 RO8 (out), 24 VCC (power), 25 GND (power), 26 DO8-/RIN8- (io), 27 DO8+/RIN8+ (io), 28 AGND (power), 29 AVCC (power), 30 DO7-/RIN7- (io), 31 DO7+/RIN7+ (io), 32 AVCC (power), 33 AGND (power), 34 DO6-/RIN6- (io), 35 DO6+/RIN6+ (io), 36 DO5-/RIN5- (io), 37 DO5+/RIN5+ (io), 38 NC, 39 NC, 40 DO4-/RIN4- (io), 41 DO4+/RIN4+ (io), 42 AVCC (power), 43 AGND (power), 44 DO3-/RIN3- (io), 45 DO3+/RIN3+ (io), 46 DO2-/RIN2- (io), 47 DO2+/RIN2+ (io), 48 AVCC (power), 49 AGND (power), 50 DO1-/RIN1- (io), 51 DO1+/RIN1+ (io), 52 AVCC (power), 53 AGND (power), 54 DO0-/RIN0- (io), 55 DO0+/RIN0+ (io), 56 GND (power), 57 VCC (power), 58 DIN0 (in), 59 RO0 (out), 60 DIN1 (in), 61 RO1 (out), 62 DIN2 (in), 63 RO2 (out), 64 VCC (power)

## DS92LV0411SQ/NOPB
designator U?
5-50 MHz Channel Link II Serializer with LVDS Parallel Interface, 36-pin LLP, 1000 Reel; PartNumber: DS92LV0411SQ/NOPB; Manufacturer: National Semiconductor; PackageTopMarking: NS*UZXYTTE#*LV0411SQ; PowerWise: N; CompType: Interface IC; High-Reliability: Y; DatasheetVersion: Jan-2011; PackageVersion: revA, Jun-2003; PackageReference: SQA36A; PackageDescription: LLP, Plastic, Quad, 6 x 6 x 0.8mm Body, 36 Lead, 0.5mm Pitch, No Pullback; RoHS: Y; PinCount: 36; ComponentLink1Description: Manufacturer URL; ComponentLink1URL: http://www.national.com/; ComponentLink2Description: DS92LV0411 Datasheet; ComponentLink2URL: http://www.national.com/ds/DS/DS92LV0411.pdf; ComponentLink3Description: DS92LV0411 Web Page; ComponentLink3URL: http://www.national.com/pf/DS/DS92LV0411.html; ComponentLink4Description: SQA36A Package Page; ComponentLink4URL: http://www.national.com/packaging/folders/sqa36a.html
footprint SQA36A (QFN, 36-Leads, Body 6x6mm, Pitch 0.5mm, Thermal Pad 4.7x4.7mm, NSC Recommended)
pins: 1 RxIN3- (in), 2 RxIN3+ (in), 3 RES6 (in), 4 ID[x] (in), 5 VDDL (power), 6 SCL (in), 7 SDA (io), 8 RES0 (in), 9 CONFIG[0] (in), 10 CONFIG[1] (in), 11 VDDP (power), 12 RES1 (in), 13 RES2 (in), 14 VDDHS (power), 15 DOUT- (out), 16 DOUT+ (out), 17 VDDTX (power), 18 RES3 (in), 19 De-Emph (in), 20 VODSEL (in), 21 BISTEN (in), 22 VDDIO (power), 23 PDB (in), 24 VDDRX (power), 25 RES7 (in), 26 MAPSEL (in), 27 RES4 (in), 28 RxIN0- (in), 29 RxIN0+ (in), 30 RxIN1- (in), 31 RxIN1+ (in), 32 RxIN2- (in), 33 RxIN2+ (in), 34 RxCLKIN- (in), 35 RxCLKIN+ (in), 36 RES5 (in), 37 DAP (power)

## DS92LV0411SQE/NOPB
designator U?
5-50 MHz Channel Link II Serializer with LVDS Parallel Interface, 36-pin LLP, 250 Reel; PartNumber: DS92LV0411SQE/NOPB; Manufacturer: National Semiconductor; PackageTopMarking: NS*UZXYTTE#*LV0411SQ; PowerWise: N; CompType: Interface IC; High-Reliability: Y; DatasheetVersion: Jan-2011; PackageVersion: revA, Jun-2003; PackageReference: SQA36A; PackageDescription: LLP, Plastic, Quad, 6 x 6 x 0.8mm Body, 36 Lead, 0.5mm Pitch, No Pullback; RoHS: Y; PinCount: 36; ComponentLink1Description: Manufacturer URL; ComponentLink1URL: http://www.national.com/; ComponentLink2Description: DS92LV0411 Datasheet; ComponentLink2URL: http://www.national.com/ds/DS/DS92LV0411.pdf; ComponentLink3Description: DS92LV0411 Web Page; ComponentLink3URL: http://www.national.com/pf/DS/DS92LV0411.html; ComponentLink4Description: SQA36A Package Page; ComponentLink4URL: http://www.national.com/packaging/folders/sqa36a.html
footprint SQA36A (QFN, 36-Leads, Body 6x6mm, Pitch 0.5mm, Thermal Pad 4.7x4.7mm, NSC Recommended)
pins: 1 RxIN3- (in), 2 RxIN3+ (in), 3 RES6 (in), 4 ID[x] (in), 5 VDDL (power), 6 SCL (in), 7 SDA (io), 8 RES0 (in), 9 CONFIG[0] (in), 10 CONFIG[1] (in), 11 VDDP (power), 12 RES1 (in), 13 RES2 (in), 14 VDDHS (power), 15 DOUT- (out), 16 DOUT+ (out), 17 VDDTX (power), 18 RES3 (in), 19 De-Emph (in), 20 VODSEL (in), 21 BISTEN (in), 22 VDDIO (power), 23 PDB (in), 24 VDDRX (power), 25 RES7 (in), 26 MAPSEL (in), 27 RES4 (in), 28 RxIN0- (in), 29 RxIN0+ (in), 30 RxIN1- (in), 31 RxIN1+ (in), 32 RxIN2- (in), 33 RxIN2+ (in), 34 RxCLKIN- (in), 35 RxCLKIN+ (in), 36 RES5 (in), 37 DAP (power)

## DS92LV0411SQX/NOPB
designator U?
5-50 MHz Channel Link II Serializer with LVDS Parallel Interface, 36-pin LLP, 2500 Reel; PartNumber: DS92LV0411SQX/NOPB; Manufacturer: National Semiconductor; PackageTopMarking: NS*UZXYTTE#*LV0411SQ; PowerWise: N; CompType: Interface IC; High-Reliability: Y; DatasheetVersion: Jan-2011; PackageVersion: revA, Jun-2003; PackageReference: SQA36A; PackageDescription: LLP, Plastic, Quad, 6 x 6 x 0.8mm Body, 36 Lead, 0.5mm Pitch, No Pullback; RoHS: Y; PinCount: 36; ComponentLink1Description: Manufacturer URL; ComponentLink1URL: http://www.national.com/; ComponentLink2Description: DS92LV0411 Datasheet; ComponentLink2URL: http://www.national.com/ds/DS/DS92LV0411.pdf; ComponentLink3Description: DS92LV0411 Web Page; ComponentLink3URL: http://www.national.com/pf/DS/DS92LV0411.html; ComponentLink4Description: SQA36A Package Page; ComponentLink4URL: http://www.national.com/packaging/folders/sqa36a.html
footprint SQA36A (QFN, 36-Leads, Body 6x6mm, Pitch 0.5mm, Thermal Pad 4.7x4.7mm, NSC Recommended)
pins: 1 RxIN3- (in), 2 RxIN3+ (in), 3 RES6 (in), 4 ID[x] (in), 5 VDDL (power), 6 SCL (in), 7 SDA (io), 8 RES0 (in), 9 CONFIG[0] (in), 10 CONFIG[1] (in), 11 VDDP (power), 12 RES1 (in), 13 RES2 (in), 14 VDDHS (power), 15 DOUT- (out), 16 DOUT+ (out), 17 VDDTX (power), 18 RES3 (in), 19 De-Emph (in), 20 VODSEL (in), 21 BISTEN (in), 22 VDDIO (power), 23 PDB (in), 24 VDDRX (power), 25 RES7 (in), 26 MAPSEL (in), 27 RES4 (in), 28 RxIN0- (in), 29 RxIN0+ (in), 30 RxIN1- (in), 31 RxIN1+ (in), 32 RxIN2- (in), 33 RxIN2+ (in), 34 RxCLKIN- (in), 35 RxCLKIN+ (in), 36 RES5 (in), 37 DAP (power)

## DS92LV0412SQ/NOPB
designator U?
5-50 MHz Channel Link II  Deserializer with LVDS Parallel Interface, 48-pin LLP, 1000 Reel; PartNumber: DS92LV0412SQ/NOPB; Manufacturer: National Semiconductor; PackageTopMarking: NS*UZXYTTE#*LV0412SQ; PowerWise: N; CompType: Interface IC; High-Reliability: Y; DatasheetVersion: Jan-2011; PackageVersion: revB, May-2009; PackageReference: SQA48A; PackageDescription: LLP, Plastic, Quad, 7 x 7 x 0.8mm Body, 48 Lead, 0.5mm Pitch, No Pullback; RoHS: Y; PinCount: 48; Code_JEDEC: MO-220-WKKD-2; ComponentLink1Description: Manufacturer URL; ComponentLink1URL: http://www.national.com/; ComponentLink2Description: DS92LV0412 Datasheet; ComponentLink2URL: http://www.national.com/ds/DS/DS92LV0412.pdf; ComponentLink3Description: DS92LV0412 Web Page; ComponentLink3URL: http://www.national.com/pf/DS/DS92LV0412.html; ComponentLink4Description: SQA48A Package Page; ComponentLink4URL: http://www.national.com/packaging/folders/sqa48a.html
footprint SQA48A (QFN, 48-Leads, Body 7x7mm, Pitch 0.5mm, Thermal Pad 5.2x5.2mm, NSC Recommended)
pins: 1 PDB (in), 2 SSC[0] (in), 3 SSC[1] (in), 4 SDA (io), 5 SCL (in), 6 VDDL (power), 7 SSC[2] (in), 8 VDDP (power), 9 GND (power), 10 CONFIG[0] (in), 11 CONFIG[1] (in), 12 ID[x] (in), 13 VDDTX (power), 14 GND (power), 15 TxOUT3+ (out), 16 TxOUT3- (out), 17 TxCLKOUT+ (out), 18 TxCLKOUT- (out), 19 TxOUT2+ (out), 20 TxOUT2- (out), 21 TxOUT1+ (out), 22 TxOUT1- (out), 23 TxOUT0+ (out), 24 TxOUT0- (out), 25 VDDIO (power), 26 GND (power), 27 LOCK (out), 28 PASS/EQ (in), 29 BISTEN (in), 30 OEN (in), 31 VDDL (power), 32 GND (power), 33 VODSEL (in), 34 MAPSEL (in), 35 OSS_SEL (in), 36 LFMODE (in), 37 RES (in), 38 VDDA (power), 39 GND (power), 40 RIN+ (in), 41 RIN- (in), 42 CMF (in), 43 VDDA (power), 44 GND (power), 45 GND (power), 46 VDDSC (power), 47 VDDSC (power), 48 GND (power), 49 DAP (power)

## DS92LV0412SQE/NOPB
designator U?
5-50 MHz Channel Link II  Deserializer with LVDS Parallel Interface, 48-pin LLP, 250 Reel; PartNumber: DS92LV0412SQE/NOPB; Manufacturer: National Semiconductor; PackageTopMarking: NS*UZXYTTE#*LV0412SQ; PowerWise: N; CompType: Interface IC; High-Reliability: Y; DatasheetVersion: Jan-2011; PackageVersion: revB, May-2009; PackageReference: SQA48A; PackageDescription: LLP, Plastic, Quad, 7 x 7 x 0.8mm Body, 48 Lead, 0.5mm Pitch, No Pullback; RoHS: Y; PinCount: 48; Code_JEDEC: MO-220-WKKD-2; ComponentLink1Description: Manufacturer URL; ComponentLink1URL: http://www.national.com/; ComponentLink2Description: DS92LV0412 Datasheet; ComponentLink2URL: http://www.national.com/ds/DS/DS92LV0412.pdf; ComponentLink3Description: DS92LV0412 Web Page; ComponentLink3URL: http://www.national.com/pf/DS/DS92LV0412.html; ComponentLink4Description: SQA48A Package Page; ComponentLink4URL: http://www.national.com/packaging/folders/sqa48a.html
footprint SQA48A (QFN, 48-Leads, Body 7x7mm, Pitch 0.5mm, Thermal Pad 5.2x5.2mm, NSC Recommended)
pins: 1 PDB (in), 2 SSC[0] (in), 3 SSC[1] (in), 4 SDA (io), 5 SCL (in), 6 VDDL (power), 7 SSC[2] (in), 8 VDDP (power), 9 GND (power), 10 CONFIG[0] (in), 11 CONFIG[1] (in), 12 ID[x] (in), 13 VDDTX (power), 14 GND (power), 15 TxOUT3+ (out), 16 TxOUT3- (out), 17 TxCLKOUT+ (out), 18 TxCLKOUT- (out), 19 TxOUT2+ (out), 20 TxOUT2- (out), 21 TxOUT1+ (out), 22 TxOUT1- (out), 23 TxOUT0+ (out), 24 TxOUT0- (out), 25 VDDIO (power), 26 GND (power), 27 LOCK (out), 28 PASS/EQ (in), 29 BISTEN (in), 30 OEN (in), 31 VDDL (power), 32 GND (power), 33 VODSEL (in), 34 MAPSEL (in), 35 OSS_SEL (in), 36 LFMODE (in), 37 RES (in), 38 VDDA (power), 39 GND (power), 40 RIN+ (in), 41 RIN- (in), 42 CMF (in), 43 VDDA (power), 44 GND (power), 45 GND (power), 46 VDDSC (power), 47 VDDSC (power), 48 GND (power), 49 DAP (power)

## DS92LV0412SQX/NOPB
designator U?
5-50 MHz Channel Link II  Deserializer with LVDS Parallel Interface, 48-pin LLP, 2500 Reel; PartNumber: DS92LV0412SQX/NOPB; Manufacturer: National Semiconductor; PackageTopMarking: NS*UZXYTTE#*LV0412SQ; PowerWise: N; CompType: Interface IC; High-Reliability: Y; DatasheetVersion: Jan-2011; PackageVersion: revB, May-2009; PackageReference: SQA48A; PackageDescription: LLP, Plastic, Quad, 7 x 7 x 0.8mm Body, 48 Lead, 0.5mm Pitch, No Pullback; RoHS: Y; PinCount: 48; Code_JEDEC: MO-220-WKKD-2; ComponentLink1Description: Manufacturer URL; ComponentLink1URL: http://www.national.com/; ComponentLink2Description: DS92LV0412 Datasheet; ComponentLink2URL: http://www.national.com/ds/DS/DS92LV0412.pdf; ComponentLink3Description: DS92LV0412 Web Page; ComponentLink3URL: http://www.national.com/pf/DS/DS92LV0412.html; ComponentLink4Description: SQA48A Package Page; ComponentLink4URL: http://www.national.com/packaging/folders/sqa48a.html
footprint SQA48A (QFN, 48-Leads, Body 7x7mm, Pitch 0.5mm, Thermal Pad 5.2x5.2mm, NSC Recommended)
pins: 1 PDB (in), 2 SSC[0] (in), 3 SSC[1] (in), 4 SDA (io), 5 SCL (in), 6 VDDL (power), 7 SSC[2] (in), 8 VDDP (power), 9 GND (power), 10 CONFIG[0] (in), 11 CONFIG[1] (in), 12 ID[x] (in), 13 VDDTX (power), 14 GND (power), 15 TxOUT3+ (out), 16 TxOUT3- (out), 17 TxCLKOUT+ (out), 18 TxCLKOUT- (out), 19 TxOUT2+ (out), 20 TxOUT2- (out), 21 TxOUT1+ (out), 22 TxOUT1- (out), 23 TxOUT0+ (out), 24 TxOUT0- (out), 25 VDDIO (power), 26 GND (power), 27 LOCK (out), 28 PASS/EQ (in), 29 BISTEN (in), 30 OEN (in), 31 VDDL (power), 32 GND (power), 33 VODSEL (in), 34 MAPSEL (in), 35 OSS_SEL (in), 36 LFMODE (in), 37 RES (in), 38 VDDA (power), 39 GND (power), 40 RIN+ (in), 41 RIN- (in), 42 CMF (in), 43 VDDA (power), 44 GND (power), 45 GND (power), 46 VDDSC (power), 47 VDDSC (power), 48 GND (power), 49 DAP (power)

## DS92LV0421SQ/NOPB
designator U?
10-75 MHz Channel Link II Serializer with LVDS Parallel Interface, 36-pin LLP, 1000 Reel; PartNumber: DS92LV0421SQ/NOPB; Manufacturer: National Semiconductor; PackageTopMarking: NS*UZXYTTE#*LV0421; PowerWise: N; CompType: Interface IC; High-Reliability: Y; DatasheetVersion: Jan-2011; PackageVersion: revA, Jun-2003; PackageReference: SQA36A; PackageDescription: LLP, Plastic, Quad, 6 x 6 x 0.8mm Body, 36 Lead, 0.5mm Pitch, No Pullback; RoHS: Y; PinCount: 36; ComponentLink1Description: Manufacturer URL; ComponentLink1URL: http://www.national.com/; ComponentLink2Description: DS92LV0421 Datasheet; ComponentLink2URL: http://www.national.com/ds/DS/DS92LV0421.pdf; ComponentLink3Description: DS92LV0421 Web Page; ComponentLink3URL: http://www.national.com/pf/DS/DS92LV0421.html; ComponentLink4Description: SQA36A Package Page; ComponentLink4URL: http://www.national.com/packaging/folders/sqa36a.html
footprint SQA36A (QFN, 36-Leads, Body 6x6mm, Pitch 0.5mm, Thermal Pad 4.7x4.7mm, NSC Recommended)
pins: 1 RxIN3- (in), 2 RxIN3+ (in), 3 RES6 (in), 4 ID[x] (in), 5 VDDL (power), 6 SCL (in), 7 SDA (io), 8 RES0 (in), 9 CONFIG[0] (in), 10 CONFIG[1] (in), 11 VDDP (power), 12 RES1 (in), 13 RES2 (in), 14 VDDHS (power), 15 DOUT- (out), 16 DOUT+ (out), 17 VDDTX (power), 18 RES3 (in), 19 De-Emph (in), 20 VODSEL (in), 21 BISTEN (in), 22 VDDIO (power), 23 PDB (in), 24 VDDRX (power), 25 RES7 (in), 26 MAPSEL (in), 27 RES4 (in), 28 RxIN0- (in), 29 RxIN0+ (in), 30 RxIN1- (in), 31 RxIN1+ (in), 32 RxIN2- (in), 33 RxIN2+ (in), 34 RxCLKIN- (in), 35 RxCLKIN+ (in), 36 RES5 (in), 37 DAP (power)

## DS92LV0421SQE/NOPB
designator U?
10-75 MHz Channel Link II Serializer with LVDS Parallel Interface, 36-pin LLP, 250 Reel; PartNumber: DS92LV0421SQE/NOPB; Manufacturer: National Semiconductor; PackageTopMarking: NS*UZXYTTE#*LV0421; PowerWise: N; CompType: Interface IC; High-Reliability: Y; DatasheetVersion: Jan-2011; PackageVersion: revA, Jun-2003; PackageReference: SQA36A; PackageDescription: LLP, Plastic, Quad, 6 x 6 x 0.8mm Body, 36 Lead, 0.5mm Pitch, No Pullback; RoHS: Y; PinCount: 36; ComponentLink1Description: Manufacturer URL; ComponentLink1URL: http://www.national.com/; ComponentLink2Description: DS92LV0421 Datasheet; ComponentLink2URL: http://www.national.com/ds/DS/DS92LV0421.pdf; ComponentLink3Description: DS92LV0421 Web Page; ComponentLink3URL: http://www.national.com/pf/DS/DS92LV0421.html; ComponentLink4Description: SQA36A Package Page; ComponentLink4URL: http://www.national.com/packaging/folders/sqa36a.html
footprint SQA36A (QFN, 36-Leads, Body 6x6mm, Pitch 0.5mm, Thermal Pad 4.7x4.7mm, NSC Recommended)
pins: 1 RxIN3- (in), 2 RxIN3+ (in), 3 RES6 (in), 4 ID[x] (in), 5 VDDL (power), 6 SCL (in), 7 SDA (io), 8 RES0 (in), 9 CONFIG[0] (in), 10 CONFIG[1] (in), 11 VDDP (power), 12 RES1 (in), 13 RES2 (in), 14 VDDHS (power), 15 DOUT- (out), 16 DOUT+ (out), 17 VDDTX (power), 18 RES3 (in), 19 De-Emph (in), 20 VODSEL (in), 21 BISTEN (in), 22 VDDIO (power), 23 PDB (in), 24 VDDRX (power), 25 RES7 (in), 26 MAPSEL (in), 27 RES4 (in), 28 RxIN0- (in), 29 RxIN0+ (in), 30 RxIN1- (in), 31 RxIN1+ (in), 32 RxIN2- (in), 33 RxIN2+ (in), 34 RxCLKIN- (in), 35 RxCLKIN+ (in), 36 RES5 (in), 37 DAP (power)

## DS92LV0421SQX/NOPB
designator U?
10-75 MHz Channel Link II Serializer with LVDS Parallel Interface, 36-pin LLP, 2500 Reel; PartNumber: DS92LV0421SQX/NOPB; Manufacturer: National Semiconductor; PackageTopMarking: NS*UZXYTTE#*LV0421; PowerWise: N; CompType: Interface IC; High-Reliability: Y; DatasheetVersion: Jan-2011; PackageVersion: revA, Jun-2003; PackageReference: SQA36A; PackageDescription: LLP, Plastic, Quad, 6 x 6 x 0.8mm Body, 36 Lead, 0.5mm Pitch, No Pullback; RoHS: Y; PinCount: 36; ComponentLink1Description: Manufacturer URL; ComponentLink1URL: http://www.national.com/; ComponentLink2Description: DS92LV0421 Datasheet; ComponentLink2URL: http://www.national.com/ds/DS/DS92LV0421.pdf; ComponentLink3Description: DS92LV0421 Web Page; ComponentLink3URL: http://www.national.com/pf/DS/DS92LV0421.html; ComponentLink4Description: SQA36A Package Page; ComponentLink4URL: http://www.national.com/packaging/folders/sqa36a.html
footprint SQA36A (QFN, 36-Leads, Body 6x6mm, Pitch 0.5mm, Thermal Pad 4.7x4.7mm, NSC Recommended)
pins: 1 RxIN3- (in), 2 RxIN3+ (in), 3 RES6 (in), 4 ID[x] (in), 5 VDDL (power), 6 SCL (in), 7 SDA (io), 8 RES0 (in), 9 CONFIG[0] (in), 10 CONFIG[1] (in), 11 VDDP (power), 12 RES1 (in), 13 RES2 (in), 14 VDDHS (power), 15 DOUT- (out), 16 DOUT+ (out), 17 VDDTX (power), 18 RES3 (in), 19 De-Emph (in), 20 VODSEL (in), 21 BISTEN (in), 22 VDDIO (power), 23 PDB (in), 24 VDDRX (power), 25 RES7 (in), 26 MAPSEL (in), 27 RES4 (in), 28 RxIN0- (in), 29 RxIN0+ (in), 30 RxIN1- (in), 31 RxIN1+ (in), 32 RxIN2- (in), 33 RxIN2+ (in), 34 RxCLKIN- (in), 35 RxCLKIN+ (in), 36 RES5 (in), 37 DAP (power)

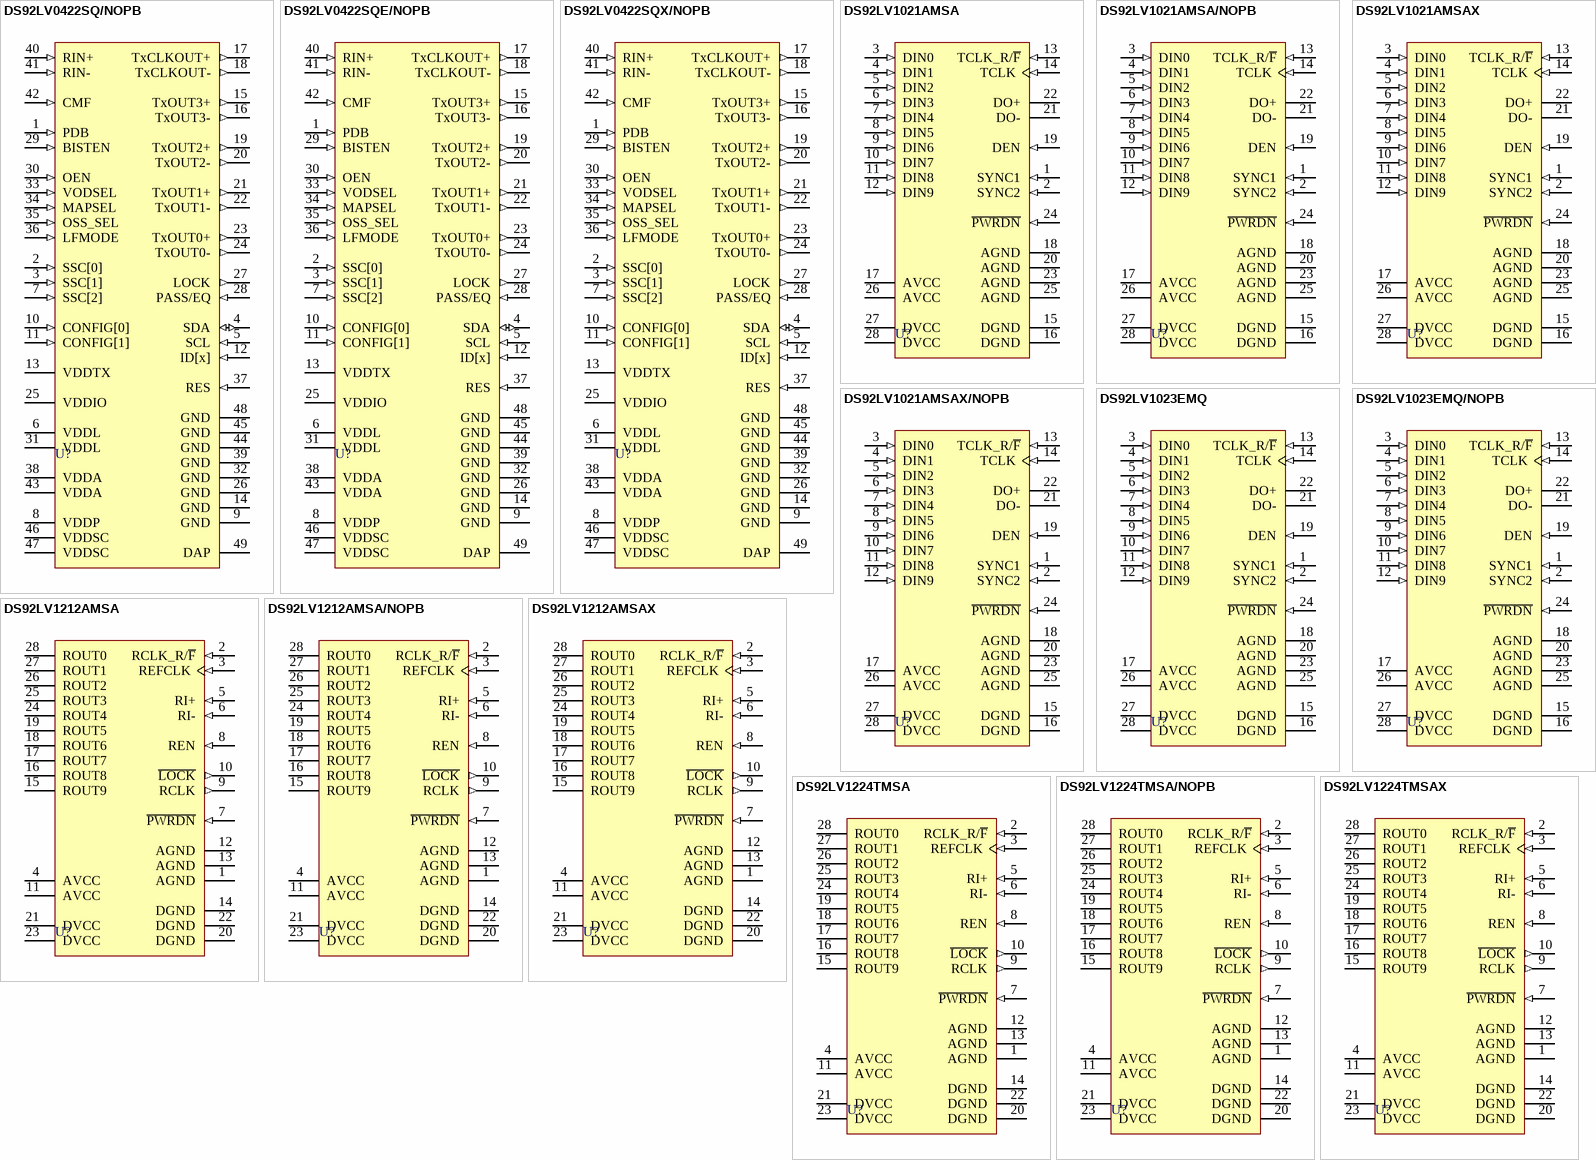
[diagram p70: symbols DS92LV0422SQ/NOPB to DS92LV1224TMSAX]

## DS92LV0422SQ/NOPB
designator U?
10-75 MHz Channel Link II Deserializer with LVDS Parallel Interface, 48-pin LLP, 1000 Reel; PartNumber: DS92LV0422SQ/NOPB; Manufacturer: National Semiconductor; PackageTopMarking: NS*UZXYTTE#*LV0422; PowerWise: N; CompType: Interface IC; High-Reliability: Y; DatasheetVersion: Jan-2011; PackageVersion: revA, Jul-2004; PackageReference: SQA48D; PackageDescription: LLP, Quad, 7 x 7 x 0.8mm, 48 Lead, 0.5mm Pitch, 4.1 x 4.1 Exposed Pad; RoHS: Y; PinCount: 48; ComponentLink1Description: Manufacturer URL; ComponentLink1URL: http://www.national.com/; ComponentLink2Description: DS92LV0422 Datasheet; ComponentLink2URL: http://www.national.com/ds/DS/DS92LV0422.pdf; ComponentLink3Description: DS92LV0422 Web Page; ComponentLink3URL: http://www.national.com/pf/DS/DS92LV0422.html; ComponentLink4Description: SQA48D Package Page; ComponentLink4URL: http://www.national.com/packaging/folders/sqa48d.html
footprint SQA48D (QFN, 48-Leads, Body 7x7mm, Pitch 0.5mm, Thermal Pad 4.2x4.2mm, NSC Recommended)
pins: 1 PDB (in), 2 SSC[0] (in), 3 SSC[1] (in), 4 SDA (io), 5 SCL (in), 6 VDDL (power), 7 SSC[2] (in), 8 VDDP (power), 9 GND (power), 10 CONFIG[0] (in), 11 CONFIG[1] (in), 12 ID[x] (in), 13 VDDTX (power), 14 GND (power), 15 TxOUT3+ (out), 16 TxOUT3- (out), 17 TxCLKOUT+ (out), 18 TxCLKOUT- (out), 19 TxOUT2+ (out), 20 TxOUT2- (out), 21 TxOUT1+ (out), 22 TxOUT1- (out), 23 TxOUT0+ (out), 24 TxOUT0- (out), 25 VDDIO (power), 26 GND (power), 27 LOCK (out), 28 PASS/EQ (in), 29 BISTEN (in), 30 OEN (in), 31 VDDL (power), 32 GND (power), 33 VODSEL (in), 34 MAPSEL (in), 35 OSS_SEL (in), 36 LFMODE (in), 37 RES (in), 38 VDDA (power), 39 GND (power), 40 RIN+ (in), 41 RIN- (in), 42 CMF (in), 43 VDDA (power), 44 GND (power), 45 GND (power), 46 VDDSC (power), 47 VDDSC (power), 48 GND (power), 49 DAP (power)

## DS92LV0422SQE/NOPB
designator U?
10-75 MHz Channel Link II Deserializer with LVDS Parallel Interface, 48-pin LLP, 250 Reel; PartNumber: DS92LV0422SQE/NOPB; Manufacturer: National Semiconductor; PackageTopMarking: NS*UZXYTTE#*LV0422; PowerWise: N; CompType: Interface IC; High-Reliability: Y; DatasheetVersion: Jan-2011; PackageVersion: revA, Jul-2004; PackageReference: SQA48D; PackageDescription: LLP, Quad, 7 x 7 x 0.8mm, 48 Lead, 0.5mm Pitch, 4.1 x 4.1 Exposed Pad; RoHS: Y; PinCount: 48; ComponentLink1Description: Manufacturer URL; ComponentLink1URL: http://www.national.com/; ComponentLink2Description: DS92LV0422 Datasheet; ComponentLink2URL: http://www.national.com/ds/DS/DS92LV0422.pdf; ComponentLink3Description: DS92LV0422 Web Page; ComponentLink3URL: http://www.national.com/pf/DS/DS92LV0422.html; ComponentLink4Description: SQA48D Package Page; ComponentLink4URL: http://www.national.com/packaging/folders/sqa48d.html
footprint SQA48D (QFN, 48-Leads, Body 7x7mm, Pitch 0.5mm, Thermal Pad 4.2x4.2mm, NSC Recommended)
pins: 1 PDB (in), 2 SSC[0] (in), 3 SSC[1] (in), 4 SDA (io), 5 SCL (in), 6 VDDL (power), 7 SSC[2] (in), 8 VDDP (power), 9 GND (power), 10 CONFIG[0] (in), 11 CONFIG[1] (in), 12 ID[x] (in), 13 VDDTX (power), 14 GND (power), 15 TxOUT3+ (out), 16 TxOUT3- (out), 17 TxCLKOUT+ (out), 18 TxCLKOUT- (out), 19 TxOUT2+ (out), 20 TxOUT2- (out), 21 TxOUT1+ (out), 22 TxOUT1- (out), 23 TxOUT0+ (out), 24 TxOUT0- (out), 25 VDDIO (power), 26 GND (power), 27 LOCK (out), 28 PASS/EQ (in), 29 BISTEN (in), 30 OEN (in), 31 VDDL (power), 32 GND (power), 33 VODSEL (in), 34 MAPSEL (in), 35 OSS_SEL (in), 36 LFMODE (in), 37 RES (in), 38 VDDA (power), 39 GND (power), 40 RIN+ (in), 41 RIN- (in), 42 CMF (in), 43 VDDA (power), 44 GND (power), 45 GND (power), 46 VDDSC (power), 47 VDDSC (power), 48 GND (power), 49 DAP (power)

## DS92LV0422SQX/NOPB
designator U?
10-75 MHz Channel Link II Deserializer with LVDS Parallel Interface, 48-pin LLP, 2500 Reel; PartNumber: DS92LV0422SQX/NOPB; Manufacturer: National Semiconductor; PackageTopMarking: NS*UZXYTTE#*LV0422; PowerWise: N; CompType: Interface IC; High-Reliability: Y; DatasheetVersion: Jan-2011; PackageVersion: revA, Jul-2004; PackageReference: SQA48D; PackageDescription: LLP, Quad, 7 x 7 x 0.8mm, 48 Lead, 0.5mm Pitch, 4.1 x 4.1 Exposed Pad; RoHS: Y; PinCount: 48; ComponentLink1Description: Manufacturer URL; ComponentLink1URL: http://www.national.com/; ComponentLink2Description: DS92LV0422 Datasheet; ComponentLink2URL: http://www.national.com/ds/DS/DS92LV0422.pdf; ComponentLink3Description: DS92LV0422 Web Page; ComponentLink3URL: http://www.national.com/pf/DS/DS92LV0422.html; ComponentLink4Description: SQA48D Package Page; ComponentLink4URL: http://www.national.com/packaging/folders/sqa48d.html
footprint SQA48D (QFN, 48-Leads, Body 7x7mm, Pitch 0.5mm, Thermal Pad 4.2x4.2mm, NSC Recommended)
pins: 1 PDB (in), 2 SSC[0] (in), 3 SSC[1] (in), 4 SDA (io), 5 SCL (in), 6 VDDL (power), 7 SSC[2] (in), 8 VDDP (power), 9 GND (power), 10 CONFIG[0] (in), 11 CONFIG[1] (in), 12 ID[x] (in), 13 VDDTX (power), 14 GND (power), 15 TxOUT3+ (out), 16 TxOUT3- (out), 17 TxCLKOUT+ (out), 18 TxCLKOUT- (out), 19 TxOUT2+ (out), 20 TxOUT2- (out), 21 TxOUT1+ (out), 22 TxOUT1- (out), 23 TxOUT0+ (out), 24 TxOUT0- (out), 25 VDDIO (power), 26 GND (power), 27 LOCK (out), 28 PASS/EQ (in), 29 BISTEN (in), 30 OEN (in), 31 VDDL (power), 32 GND (power), 33 VODSEL (in), 34 MAPSEL (in), 35 OSS_SEL (in), 36 LFMODE (in), 37 RES (in), 38 VDDA (power), 39 GND (power), 40 RIN+ (in), 41 RIN- (in), 42 CMF (in), 43 VDDA (power), 44 GND (power), 45 GND (power), 46 VDDSC (power), 47 VDDSC (power), 48 GND (power), 49 DAP (power)